# Altium schematic symbol library ETS_Library.SchLib: 127 symbols (part 3 of 3)
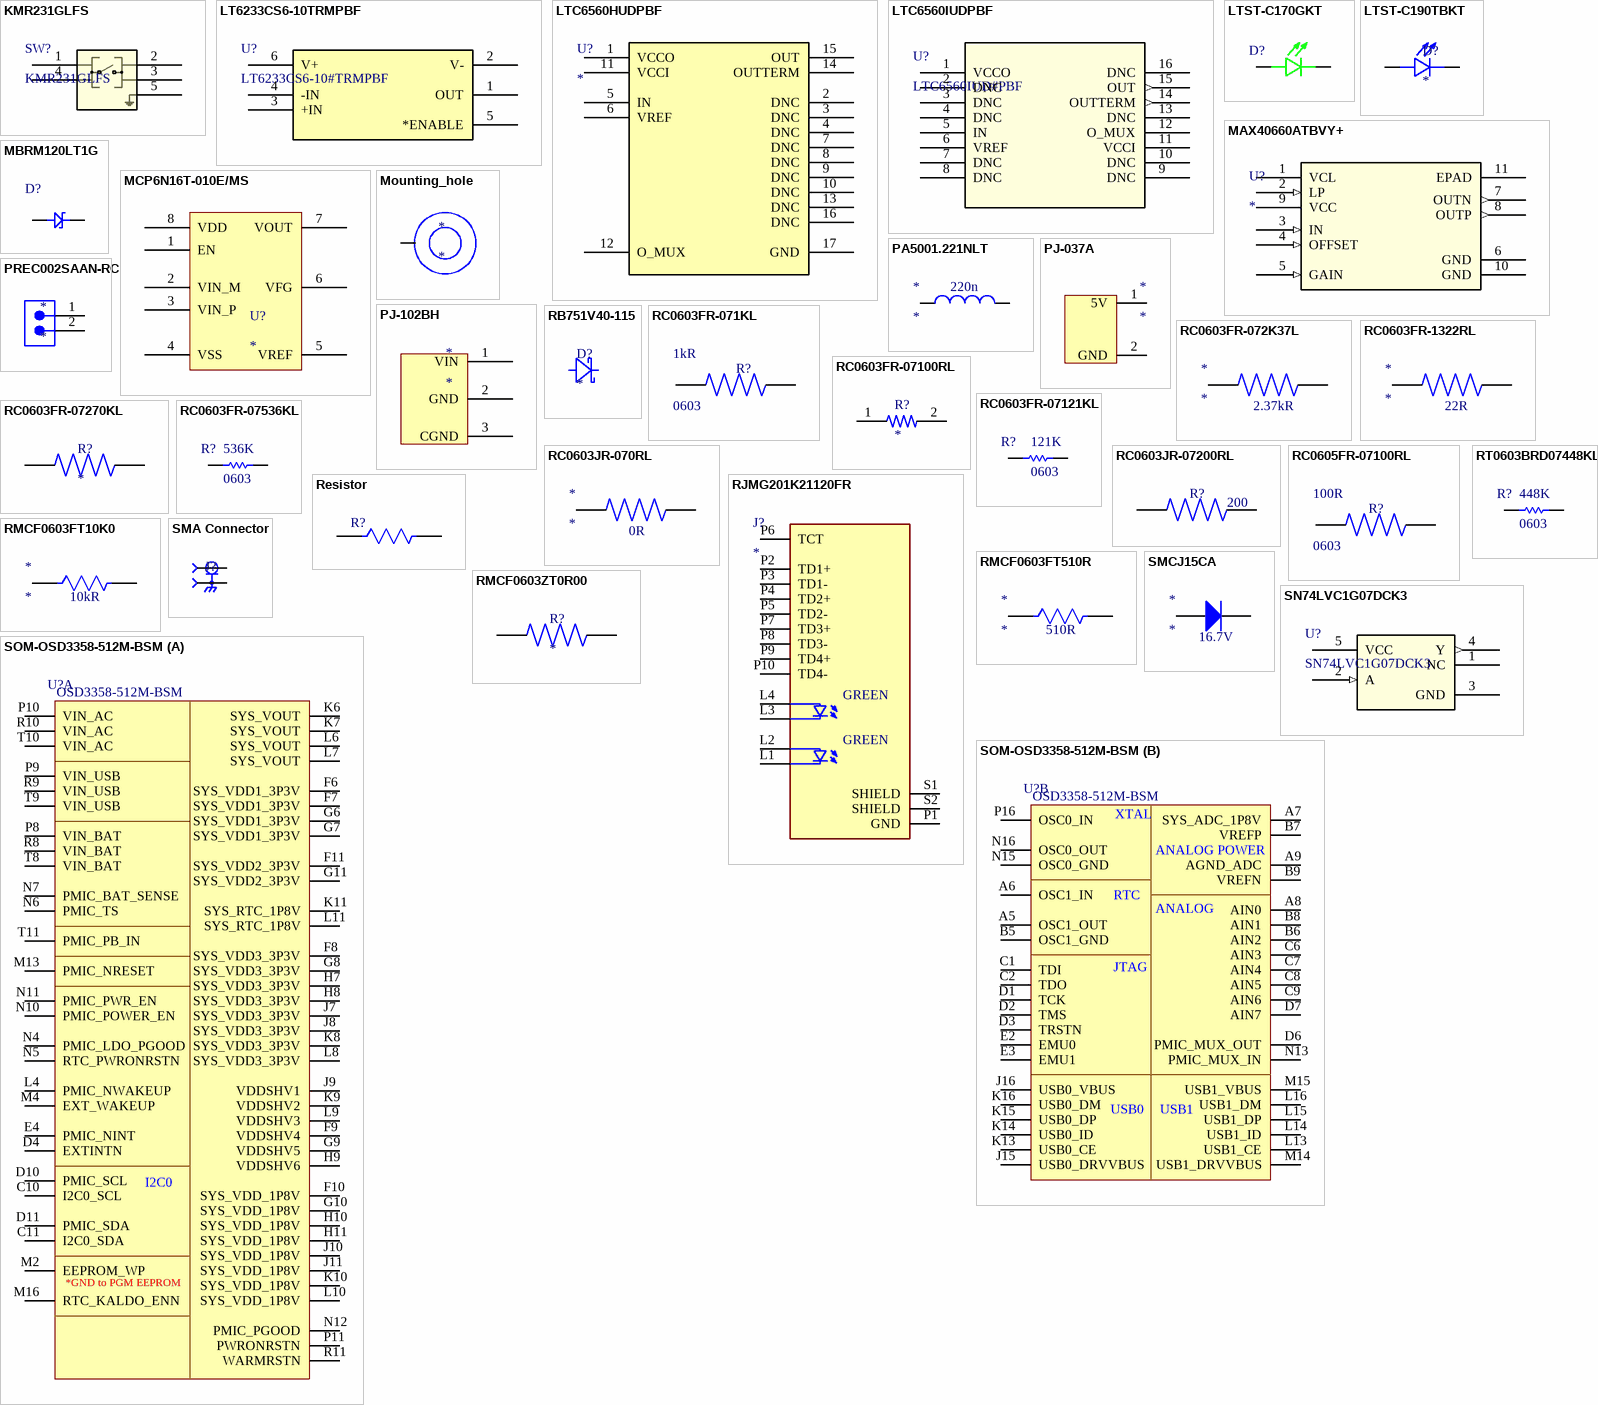
[diagram p5: symbols KMR231GLFS to SOM-OSD3358-512M-BSM]

## RMCF0603FT510R
designator *  value 510R
RES 510 OHM 1% 1/10W 0603; Manufacturer: Stackpole Electronics; Manufacturer Part Number: RMCF0603FT510R; Power: 100mW; Rated Temperature: 70°C; Temperature Coefficient: 100ppm/°C; Working Voltage: 75V; Package Height: 0.45mm; Package Length: 1.55mm; Package Width: 0.8mm; Reference Standard: AEC-Q200; Supplier: Arrow Electronics; Supplier Part Number: RMCF0603FT510R; RoHS: Yes; Category: Chip SMD Resistors; Stock: 10000; Pricing: 5000=0.003, 10000=0.0027, 25000=0.0023, 35000=0.0022, 50000=0.0021, 125000=0.0021 (USD); Mounting Technology: Surface Mount; Pins: 2; Package Shape: Rectangular; Case/Package: 0603; Terminal Finish: Nickel; Min Operating Temperature: -55°C; Max Operating Temperature: 155°C; Tolerance: 1%; JESD-609 Code: e3; Resistor Type: FIXED RESISTOR; Construction: Rectangular; Package Style: SMTMeter; Packaging: Tape and Reel; Technology: METAL GLAZE/THICK FILM; Termination: Wraparound; Reach SVHC Compliant: Yes; RoHS Compliant: Yes; ComponentLink1URL: https://datasheet.ciiva.com:443/pdfs/VipMasterIC/IC/SEIE/SEIE-S-A0009541969/SEIE-S-A0009541969-1.pdf?src-supplier=IHS+Markit; ComponentLink1Description: https://datasheet.ciiva.com:443/pdfs/VipMasterIC/IC/SEIE/SEIE-S-A0009541969/SEIE-S-A0009541969-1.pdf?src-supplier=IHS+Markit; ComponentLink2URL: http://components.arrow.com/part/dataview/40960407S7629227N1174?src-supplier=Arrow+Electronics; ComponentLink2Description: http://components.arrow.com/part/dataview/40960407S7629227N1174?src-supplier=Arrow+Electronics; ComponentLink3URL: https://www.seielect.com/catalog/SEI-Packaging.pdf?src-supplier=Digikey; ComponentLink3Description: https://www.seielect.com/catalog/SEI-Packaging.pdf?src-supplier=Digikey; ComponentLink4URL: https://www.seielect.com/Catalog/SEI-RMCF_RMCP.pdf?src-supplier=Digikey; ComponentLink4Description: https://www.seielect.com/Catalog/SEI-RMCF_RMCP.pdf?src-supplier=Digikey; ComponentLink5URL: https://www.seielect.com/catalog/SEI-RMCF_RMCP.pdf?src-supplier=Avnet; ComponentLink5Description: https://www.seielect.com/catalog/SEI-RMCF_RMCP.pdf?src-supplier=Avnet
footprint STA_RMCF0603_STP
pins: 1, 2

## RMCF0603ZT0R00
designator R?
0 Ohms Jumper 0.1W, 1/10W Chip Resistor 0603 (1608 Metric) Automotive AEC-Q200 Thick Film; MF: Stackpole Electronics; MP: RMCF0603ZT0R00; SnapEDA_Link: https://www.snapeda.com/parts/RMCF0603ZT0R00/Stackpole+Electronics+Inc/view-part/?ref=snap; Package: 0603 Stackpole Electronics; Value: *; Check_prices: https://www.snapeda.com/parts/RMCF0603ZT0R00/Stackpole+Electronics+Inc/view-part/?ref=eda
footprint RESC1508X55N
pins: 1, 2

## RT0603BRD07448KL
designator R?  value 448K  Case/Package: 0603  (hidden comment: RT0603BRD07448KL)
RES 448K OHM 0.1% 1/10W 0603; ComponentLink1URL: https://datasheet.ciiva.com:443/pdfs/VipMasterIC/IC/YAGO/YAGO-S-A0008145938/YAGO-S-A0008145938-1.pdf?src-supplier=IHS+Markit; ComponentLink1Description: https://datasheet.ciiva.com:443/pdfs/VipMasterIC/IC/YAGO/YAGO-S-A0008145938/YAGO-S-A0008145938-1.pdf?src-supplier=IHS+Markit; Supplier 1: DigiKey; Supplier Part Number 1: 13-RT0603BRD07448KLCT-ND
footprint R0603 (Chip Resistor, 2-Leads, Body 1.60x0.80mm, IPC Low Density)
pins: 1, 2

## SMA Connector
designator J?, comment EMPCB.SMAFSTJ.B.HT  (value not drawn)
SMA Connector Jack, Female Socket 50Ohm Board Edge, End Launch Solder; MF: Taoglas Limited; Value: *; SnapEDA_Link: https://www.snapeda.com/parts/EMPCB.SMAFSTJ.B.HT/Taoglas+Limited/view-part/?ref=snap; MP: EMPCB.SMAFSTJ.B.HT; Purchase-URL: https://pricing.snapeda.com/search/part/EMPCB.SMAFSTJ.B.HT/?ref=eda; Check_prices: https://www.snapeda.com/parts/EMPCB.SMAFSTJ.B.HT/Taoglas+Limited/view-part/?ref=eda; Availability: In Stock; Price: None; Package: None
footprint SMA Connector (TAOGLAS_EMPCB.SMAFSTJ.B.HT)
pins: 1, SH1 2, SH2 2, SH3 2, SH4 2

## SMCJ15CA
designator *  Min Breakdown Voltage: 16.7V
TVS DIODE 15VWM 24.4VC DO214AB; Manufacturer: Littelfuse; Manufacturer Part Number: SMCJ15CA; Reverse Standoff Voltage: 15V; Peak Pulse Power: 1.5kW; Polarity: Bidirectional; Peak Pulse Current: 61.5A; Max Breakdown Voltage: 18.5V; Test Current: 1mA; Number of Bidirectional Channels: 1; Clamping Voltage: 24.4V; Power Line Protection: No; Diode Type: ZENER; Max Power Dissipation: 6.5W; Leakage Current: 1uA; Supplier: Future Electronics; Supplier Part Number: 1631795; RoHS: Yes; Category: TVS Diodes; Stock: 15000; Pricing: 3000=0.184, 6000=0.18, 9000=0.178, 12000=0.177, 15000=0.172 (USD); Mounting Technology: Surface Mount; Case/Package: DO-214AB; Pins: 2; Min Operating Temperature: -65°C; Max Operating Temperature: 150°C; Direction: Bidirectional; Packaging: Tape and Reel; Breakdown Voltage: 16.7V; Package Quantity: 3000; Max Surge Current: 61.5A; Voltage Rating (DC): 15V; Series: SMCJ; Operating Supply Voltage: 15V; Power Dissipation: 1.5kW; Clamping Voltage-Max: 24.4V; Reverse Breakdown Voltage: 16.7V; Number of Channels: 1; Termination: SMD/SMT; Number of Elements: 1; Length: 8.13mm; Width: 6.22mm; Height: 2.62mm; RoHS Compliant: Yes; Reach SVHC Compliant: No; Lead Free: Lead Free; ComponentLink1URL: https://datasheet.ciiva.com/332/littelfuse-tvs-diode-smcj-datasheet-pdf-332436.pdf?src-supplier=Digikey; ComponentLink1Description: https://datasheet.ciiva.com/332/littelfuse-tvs-diode-smcj-datasheet-pdf-332436.pdf?src-supplier=Digikey; ComponentLink2URL: https://datasheet.ciiva.com/332/littelfuse-tvs-diode-smcj-datasheet-pdf-332437.pdf?src-supplier=Digikey; ComponentLink2Description: https://datasheet.ciiva.com/332/littelfuse-tvs-diode-smcj-datasheet-pdf-332437.pdf?src-supplier=Digikey; ComponentLink3URL: https://datasheet.ciiva.com/332/littelfuse-tvs-diode-smcj-datasheet-pdf-332438.pdf?src-supplier=Digikey; ComponentLink3Description: https://datasheet.ciiva.com/332/littelfuse-tvs-diode-smcj-datasheet-pdf-332438.pdf?src-supplier=Digikey; ComponentLink4URL: https://datasheet.ciiva.com/4509/littelfuse-tvs-diode-smcj-62645-4509853.pdf?src-supplier=Mouser; ComponentLink4Description: https://datasheet.ciiva.com/4509/littelfuse-tvs-diode-smcj-62645-4509853.pdf?src-supplier=Mouser; ComponentLink5URL: https://datasheet.ciiva.com/46384/607636-46384504.pdf?src-supplier=Element14; ComponentLink5Description: https://datasheet.ciiva.com/46384/607636-46384504.pdf?src-supplier=Element14
footprint DIOM8059X265N
pins: 1 A, 2 K

## SN74LVC1G07DCK3
designator U?
IC BUFFER NON-INVERT 5.5V SC70-5; Mfr_Name: Texas Instruments; Copyright: Copyright (C) 2024 Ultra Librarian. All rights reserved.; Manufacturer_Part_Number: SN74LVC1G07DCK3; RefDes: RefDes; Type: DEV
footprint DCK5
pins: 1 NC, 2 A (in), 3 GND (power), 4 Y (out), 5 VCC (power)

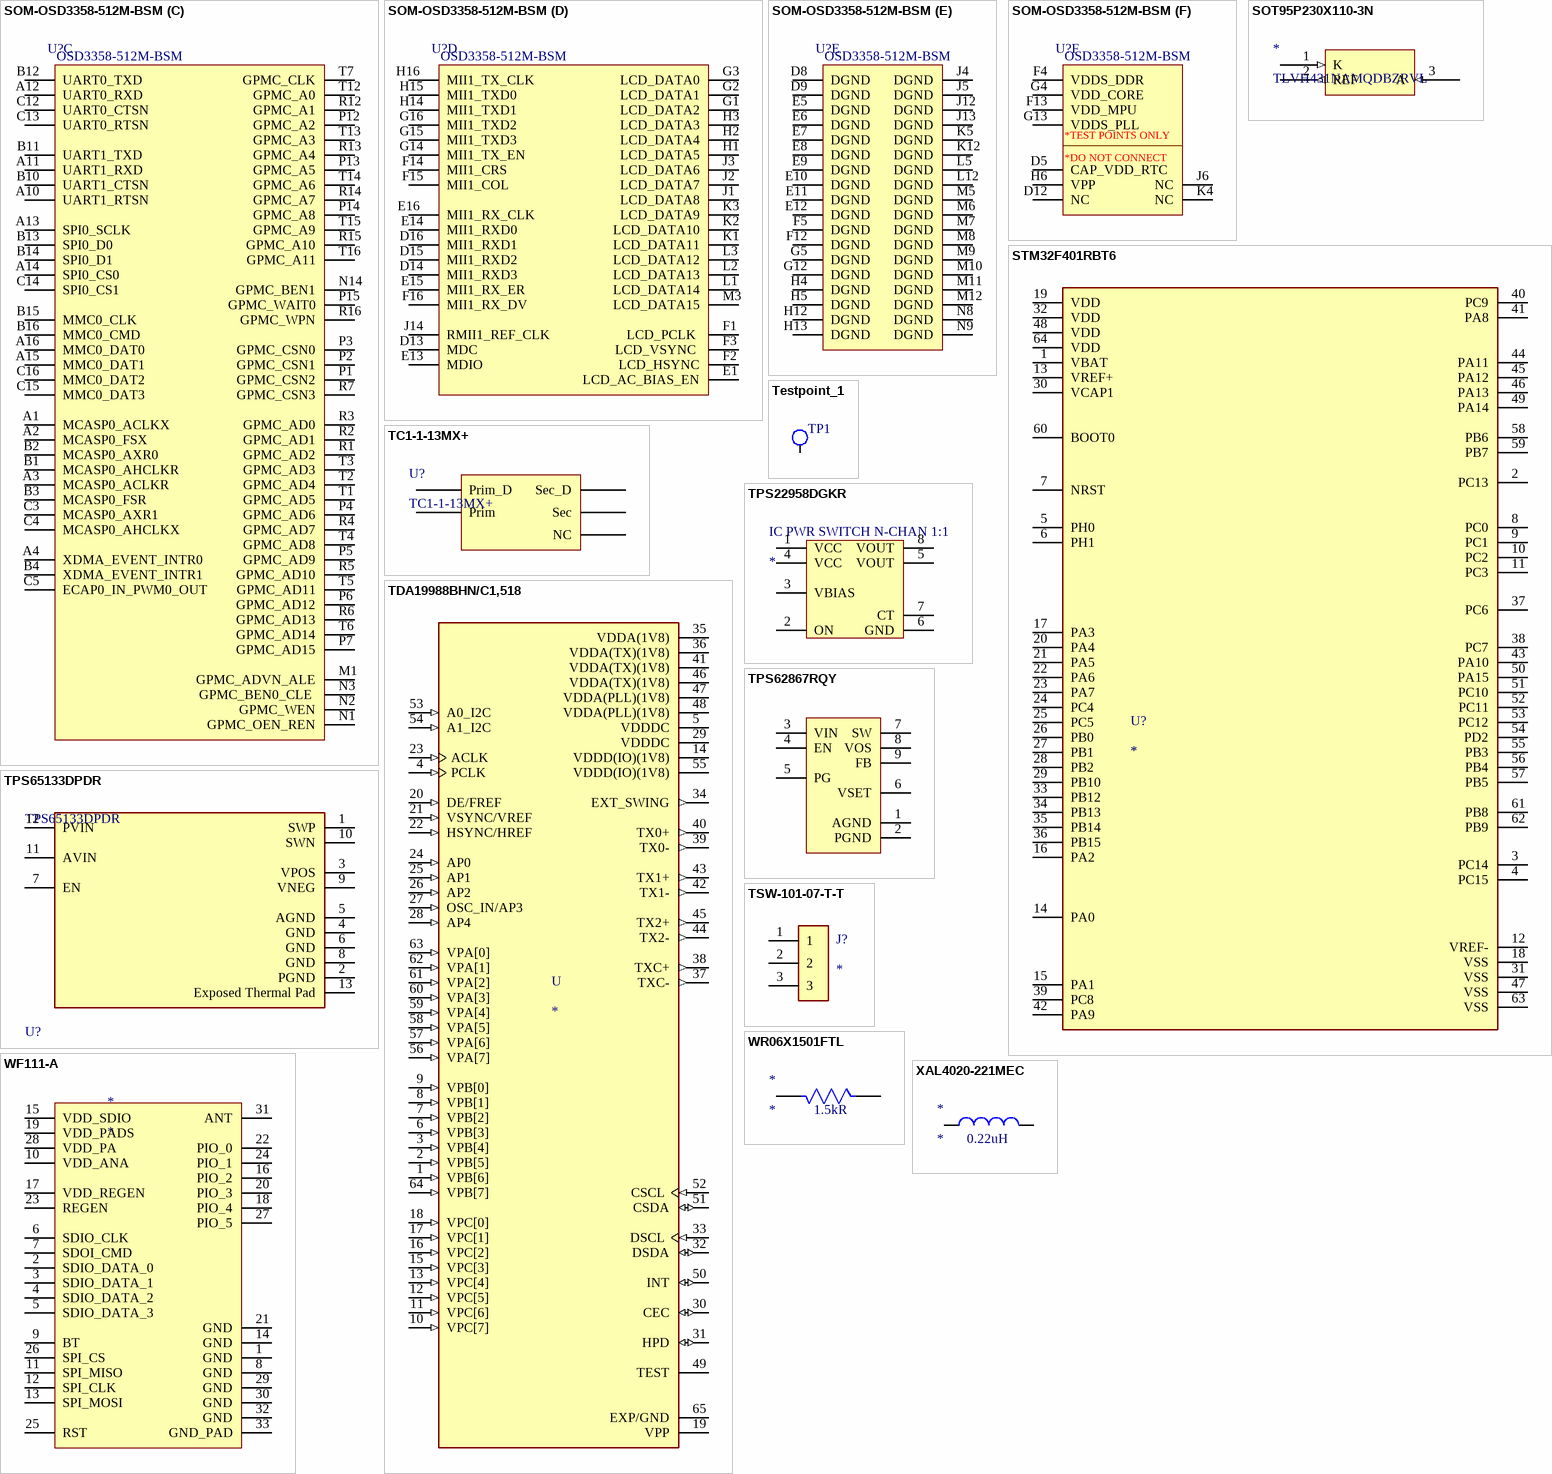
[diagram p3: symbols SOM-OSD3358-512M-BSM to XAL4020-221MEC]

## SOM-OSD3358-512M-BSM
designator U?, comment OSD3358-512M-BSM
IC MODULE CORTEX-A8 1GHZ 512MB; Manufacturer: Octavo Systems; Package: FBGA -256; Temperature range: 0C to +85C; PartNumber: OSD3358-512M-BSM
footprint BGA256C127P16X16_2100X2100X308 (BGA, 256-Leads, Body 21.00x21.00mmx3.08mm, Pitch 1.27mm)
part A pins: C10 I2C0_SCL, C11 I2C0_SDA, D4 EXTINTN, D10 PMIC_SCL, D11 PMIC_SDA, E4 PMIC_NINT, F6 SYS_VDD1_3P3V, F7 SYS_VDD1_3P3V, F8 SYS_VDD3_3P3V, F9 VDDSHV4, F10 SYS_VDD_1P8V, F11 SYS_VDD2_3P3V, G6 SYS_VDD1_3P3V, G7 SYS_VDD1_3P3V, G8 SYS_VDD3_3P3V, G9 VDDSHV5, G10 SYS_VDD_1P8V, G11 SYS_VDD2_3P3V, H7 SYS_VDD3_3P3V, H8 SYS_VDD3_3P3V, H9 VDDSHV6, H10 SYS_VDD_1P8V, H11 SYS_VDD_1P8V, J7 SYS_VDD3_3P3V, J8 SYS_VDD3_3P3V, J9 VDDSHV1, J10 SYS_VDD_1P8V, J11 SYS_VDD_1P8V, K6 SYS_VOUT, K7 SYS_VOUT, K8 SYS_VDD3_3P3V, K9 VDDSHV2, K10 SYS_VDD_1P8V, K11 SYS_RTC_1P8V, L4 PMIC_NWAKEUP, L6 SYS_VOUT, L7 SYS_VOUT, L8 SYS_VDD3_3P3V, L9 VDDSHV3, L10 SYS_VDD_1P8V, L11 SYS_RTC_1P8V, M2 EEPROM_WP, M4 EXT_WAKEUP, M13 PMIC_NRESET, M16 RTC_KALDO_ENN, N4 PMIC_LDO_PGOOD, N5 RTC_PWRONRSTN, N6 PMIC_TS, N7 PMIC_BAT_SENSE, N10 PMIC_POWER_EN, N11 PMIC_PWR_EN, N12 PMIC_PGOOD, P8 VIN_BAT, P9 VIN_USB, P10 VIN_AC, P11 PWRONRSTN, R8 VIN_BAT, R9 VIN_USB, R10 VIN_AC, R11 WARMRSTN, T8 VIN_BAT, T9 VIN_USB, T10 VIN_AC, T11 PMIC_PB_IN
part B pins: A5 OSC1_OUT, A6 OSC1_IN, A7 SYS_ADC_1P8V, A8 AIN0, A9 AGND_ADC, B5 OSC1_GND, B6 AIN2, B7 VREFP, B8 AIN1, B9 VREFN, C1 TDI, C2 TDO, C6 AIN3, C7 AIN4, C8 AIN5, C9 AIN6, D1 TCK, D2 TMS, D3 TRSTN, D6 PMIC_MUX_OUT, D7 AIN7, E2 EMU0, E3 EMU1, J15 USB0_DRVVBUS, J16 USB0_VBUS, K13 USB0_CE, K14 USB0_ID, K15 USB0_DP, K16 USB0_DM, L13 USB1_CE, L14 USB1_ID, L15 USB1_DP, L16 USB1_DM, M14 USB1_DRVVBUS, M15 USB1_VBUS, N13 PMIC_MUX_IN, N15 OSC0_GND, N16 OSC0_OUT, P16 OSC0_IN
part C pins: A1 MCASP0_ACLKX, A2 MCASP0_FSX, A3 MCASP0_ACLKR, A4 XDMA_EVENT_INTR0, A10 UART1_RTSN, A11 UART1_RXD, A12 UART0_RXD, A13 SPI0_SCLK, A14 SPI0_CS0, A15 MMC0_DAT1, A16 MMC0_DAT0, B1 MCASP0_AHCLKR, B2 MCASP0_AXR0, B3 MCASP0_FSR, B4 XDMA_EVENT_INTR1, B10 UART1_CTSN, B11 UART1_TXD, B12 UART0_TXD, B13 SPI0_D0, B14 SPI0_D1, B15 MMC0_CLK, B16 MMC0_CMD, C3 MCASP0_AXR1, C4 MCASP0_AHCLKX, C5 ECAP0_IN_PWM0_OUT, C12 UART0_CTSN, C13 UART0_RTSN, C14 SPI0_CS1, C15 MMC0_DAT3, C16 MMC0_DAT2, M1 GPMC_ADVN_ALE, N1 GPMC_OEN_REN, N2 GPMC_WEN, N3 GPMC_BEN0_CLE , N14 GPMC_BEN1, P1 GPMC_CSN2, P2 GPMC_CSN1, P3 GPMC_CSN0, P4 GPMC_AD6, P5 GPMC_AD9, P6 GPMC_AD12, P7 GPMC_AD15, P12 GPMC_A2, P13 GPMC_A5, P14 GPMC_A8, P15 GPMC_WAIT0, R1 GPMC_AD2, R2 GPMC_AD1, R3 GPMC_AD0, R4 GPMC_AD7, R5 GPMC_AD10, R6 GPMC_AD13, R7 GPMC_CSN3, R12 GPMC_A1, R13 GPMC_A4, R14 GPMC_A7, R15 GPMC_A10, R16 GPMC_WPN, T1 GPMC_AD5, T2 GPMC_AD4, T3 GPMC_AD3, T4 GPMC_AD8, T5 GPMC_AD11, T6 GPMC_AD14, T7 GPMC_CLK, T12 GPMC_A0, T13 GPMC_A3, T14 GPMC_A6, T15 GPMC_A9, T16 GPMC_A11
part D pins: D13 MDC, D14 MII1_RXD3, D15 MII1_RXD2, D16 MII1_RXD1, E1 LCD_AC_BIAS_EN, E13 MDIO, E14 MII1_RXD0, E15 MII1_RX_ER, E16  MII1_RX_CLK, F1 LCD_PCLK , F2 LCD_HSYNC, F3 LCD_VSYNC , F14 MII1_CRS, F15 MII1_COL, F16 MII1_RX_DV, G1 LCD_DATA2, G2 LCD_DATA1, G3 LCD_DATA0, G14 MII1_TX_EN, G15 MII1_TXD3, G16 MII1_TXD2, H1 LCD_DATA5, H2 LCD_DATA4, H3 LCD_DATA3, H14 MII1_TXD1, H15 MII1_TXD0, H16  MII1_TX_CLK, J1 LCD_DATA8, J2 LCD_DATA7, J3 LCD_DATA6, J14 RMII1_REF_CLK, K1 LCD_DATA11, K2 LCD_DATA10, K3 LCD_DATA9, L1 LCD_DATA14, L2 LCD_DATA13, L3 LCD_DATA12, M3 LCD_DATA15
part E pins: D8 DGND, D9 DGND, E5 DGND, E6 DGND, E7 DGND, E8 DGND, E9 DGND, E10 DGND, E11 DGND, E12 DGND, F5 DGND, F12 DGND, G5 DGND, G12 DGND, H4 DGND, H5 DGND, H12 DGND, H13 DGND, J4 DGND, J5 DGND, J12 DGND, J13 DGND, K5 DGND, K12 DGND, L5 DGND, L12 DGND, M5 DGND, M6 DGND, M7 DGND, M8 DGND, M9 DGND, M10 DGND, M11 DGND, M12 DGND, N8 DGND, N9 DGND
part F pins: D5 CAP_VDD_RTC, D12 NC, F4 VDDS_DDR, F13 VDD_MPU, G4 VDD_CORE, G13 VDDS_PLL, H6 VPP, J6 NC, K4 NC
part A text: I2C0; *GND to PGM EEPROM
part B text: XTAL; ANALOG POWER; RTC /; ANALOG; JTAG; USB0; USB1
part F text: *TEST POINTS ONLY; *DO NOT CONNECT

## SOT95P230X110-3N
designator *, comment TLVH431NAMQDBZRVL
IC VREF SHUNT ADJ 1.5% TO236AB
footprint SOT95P230X110-3N
pins: 1 K (in), 2 REF (out), 3 A (in)

## STM32F401RBT6
designator U?
ARMÂ® CortexÂ®-M4 STM32F4 Microcontroller IC 32-Bit Single-Core 84MHz 128KB (128K x 8) FLASH 64-LQFP (10x10); MF: STMicroelectronics; MP: STM32F401RBT6; SnapEDA_Link: https://www.snapeda.com/parts/STM32F401RBT6/STMicroelectronics/view-part/?ref=snap; Package: LQFP-64 STMicroelectronics; Value: *; Check_prices: https://www.snapeda.com/parts/STM32F401RBT6/STMicroelectronics/view-part/?ref=eda
footprint QFP50P1200X1200X160-64N
pins: 1 VBAT, 2 PC13, 3 PC14, 4 PC15, 5 PH0, 6 PH1, 7 NRST, 8 PC0, 9 PC1, 10 PC2, 11 PC3, 12 VREF-, 13 VREF+, 14 PA0, 15 PA1, 16 PA2, 17 PA3, 18 VSS, 19 VDD, 20 PA4, 21 PA5, 22 PA6, 23 PA7, 24 PC4, 25 PC5, 26 PB0, 27 PB1, 28 PB2, 29 PB10, 30 VCAP1, 31 VSS, 32 VDD, 33 PB12, 34 PB13, 35 PB14, 36 PB15, 37 PC6, 38 PC7, 39 PC8, 40 PC9, 41 PA8, 42 PA9, 43 PA10, 44 PA11, 45 PA12, 46 PA13, 47 VSS, 48 VDD, 49 PA14, 50 PA15, 51 PC10, 52 PC11, 53 PC12, 54 PD2, 55 PB3, 56 PB4, 57 PB5, 58 PB6, 59 PB7, 60 BOOT0, 61 PB8, 62 PB9, 63 VSS, 64 VDD

## TC1-1-13MX+
designator U?
1:1 CORE & WIRE TRANSFORMER, 4.5
footprint TC1-1-13MX+
pins: 1 Sec_D, 2 NC, 3 Sec, 4 Prim, 6 Prim_D

## TDA19988BHN/C1,518
designator U
Video IC 64-HVQFN _9x9_ Package; MP: TDA19988BHN/C1,518; MF: NXP USA; Package: HVQFN-64 NXP Semiconductors; Value: *; SnapEDA_Link: https://www.snapeda.com/parts/TDA19988BHN/C1,518/NXP%20USA%20Inc./view-part/649183/?ref=snap; Availability: Unavailable; Price: None
footprint QFN50P900X900X100-65N
pins: 1 VPB[6] (in), 2 VPB[5] (in), 3 VPB[4] (in), 4 PCLK (in), 5 VDDDC (power), 6 VPB[3] (in), 7 VPB[2] (in), 8 VPB[1] (in), 9 VPB[0] (in), 10 VPC[7] (in), 11 VPC[6] (in), 12 VPC[5] (in), 13 VPC[4] (in), 14 VDDD(IO)(1V8) (power), 15 VPC[3] (in), 16 VPC[2] (in), 17 VPC[1] (in), 18 VPC[0] (in), 19 VPP (power), 20 DE/FREF (in), 21 VSYNC/VREF (in), 22 HSYNC/HREF (in), 23 ACLK (in), 24 AP0 (in), 25 AP1 (in), 26 AP2 (in), 27 OSC_IN/AP3 (in), 28 AP4 (in), 29 VDDDC (power), 30 CEC (io), 31 HPD (io), 32 DSDA (io), 33 DSCL (in), 34 EXT_SWING (out), 35 VDDA(1V8) (power), 36 VDDA(TX)(1V8) (power), 37 TXC- (out), 38 TXC+ (out), 39 TX0- (out), 40 TX0+ (out), 41 VDDA(TX)(1V8) (power), 42 TX1- (out), 43 TX1+ (out), 44 TX2- (out), 45 TX2+ (out), 46 VDDA(TX)(1V8) (power), 47 VDDA(PLL)(1V8) (power), 48 VDDA(PLL)(1V8) (power), 49 TEST, 50 INT (io), 51 CSDA (io), 52 CSCL (in), 53 A0_I2C (in), 54 A1_I2C (in), 55 VDDD(IO)(1V8) (power), 56 VPA[7] (in), 57 VPA[6] (in), 58 VPA[5] (in), 59 VPA[4] (in), 60 VPA[3] (in), 61 VPA[2] (in), 62 VPA[1] (in), 63 VPA[0] (in), 64 VPB[7] (in), 65 EXP/GND (power)

## Testpoint_1
designator TP1, comment TP_1  (value not drawn)  (no BOM)
footprint Testpoint_1
pins: 1

## TPS22958DGKR
designator IC PWR SWITCH N-CHAN 1:1
Power Switch/Driver 1:1 N-Channel 4A 8-VSSOP; Manufacturer: Texas Instruments; Manufacturer Part Number: TPS22958DGKR; Number of Outputs: 1; Interface: On/Off; Output Configuration: High Side; Supplier: Mouser; Supplier Part Number: 595-TPS22958DGKR; RoHS: Yes; Category: Power Management ICs; Stock: 26717; Pricing: 1=1, 10=0.848, 50=0.848, 100=0.651, 1000=0.454, 10000=0.379 (USD); Case/Package: VSSOP; Pins: 8NUMBER; Min Operating Temperature: -40°C; Max Operating Temperature: 105°C; Packaging: Tape and Reel; Max Output current: 4A; Number of Channels: 1; Series: -; Length: 3mm; Width: 3mm; Height: 1.07mm; Thickness: 970um; Lead Free: Lead Free; RoHS Compliant: Yes; ComponentLink1URL: http://www.ti.com/lit/ds/symlink/tps22958.pdf?src-supplier=Digikey; ComponentLink1Description: http://www.ti.com/lit/ds/symlink/tps22958.pdf?src-supplier=Digikey; ComponentLink2URL: http://www.ti.com/general/docs/suppproductinfo.tsp?distId=10&amp;gotoUrl=http%3A%2F%2Fwww.ti.com%2Flit%2Fgpn%2Ftps22958&src-supplier=Digikey; ComponentLink2Description: http://www.ti.com/general/docs/suppproductinfo.tsp?distId=10&amp;gotoUrl=http%3A%2F%2Fwww.ti.com%2Flit%2Fgpn%2Ftps22958&src-supplier=Digikey; ComponentLink3URL: http://www.ti.com/general/docs/lit/getliterature.tsp?genericPartNumber=TPS22958&&fileType=pdf&src-supplier=Avnet; ComponentLink3Description: http://www.ti.com/general/docs/lit/getliterature.tsp?genericPartNumber=TPS22958&&fileType=pdf&src-supplier=Avnet; ComponentLink4URL: http://www.ti.com/lit/gpn/tps22958?src-supplier=Mouser; ComponentLink4Description: http://www.ti.com/lit/gpn/tps22958?src-supplier=Mouser
footprint DGN0008D_L
pins: 1 VCC, 2 ON, 3 VBIAS, 4 VCC, 5 VOUT, 6 GND, 7 CT, 8 VOUT

## TPS62867RQY
designator ?  (value not drawn)
IC REG BUCK ADJ 6A 9VQFN; Supplier 1: Mouser; Supplier Part Number 1: 595-TPS62867RQYR
footprint RQY0009A-MFG
pins: 1 AGND, 2 PGND, 3 VIN, 4 EN, 5 PG, 6 VSET, 7 SW, 8 VOS, 9 FB

## TPS65133DPDR
designator U?
IC REG AMOLED DISPL 2OUT 12WSON; Number of Channels: 2; Max Supply Voltage: 5V; Min Supply Voltage: 2.9V; Output Voltage: -5V; Mount: Surface Mount; Case/Package: QFN; Packaging: Tape and Reel; Lead Free: Lead Free; Radiation Hardening: No; Min Operating Temperature: -40°C; Number of Outputs: 2; Max Operating Temperature: 85°C; Number of Pins: 12; RoHS Compliant: Yes; Package Quantity: 3000
footprint FP-DPD0012A-MFG
pins: 1 SWP, 2 PGND, 3 VPOS, 4 GND, 5 AGND, 6 GND, 7 EN, 8 GND, 9 VNEG, 10 SWN, 11 AVIN, 12 PVIN, 13 Exposed Thermal Pad

## TSW-101-07-T-T
designator J?
MF: Samtec; MP: TSW-101-07-T-T; Package: None; Value: *; Availability: Unavailable; Price: None
footprint SAMTEC_TSW-101-07-T-T
pins: 1, 2, 3

## WF111-A
designator *
RF TXRX MODULE WIFI CHIP SMD
footprint WF111
pins: 1 GND, 2 SDIO_DATA_0, 3 SDIO_DATA_1, 4 SDIO_DATA_2, 5 SDIO_DATA_3, 6 SDIO_CLK, 7 SDOI_CMD, 8 GND, 9 BT, 10 VDD_ANA, 11 SPI_MISO, 12 SPI_CLK, 13 SPI_MOSI, 14 GND, 15 VDD_SDIO, 16 PIO_2, 17 VDD_REGEN, 18 PIO_4, 19 VDD_PADS, 20 PIO_3, 21 GND, 22 PIO_0, 23 REGEN, 24 PIO_1, 25 RST, 26 SPI_CS, 27 PIO_5, 28 VDD_PA, 29 GND, 30 GND, 31 ANT, 32 GND, 33 GND_PAD

## WR06X1501FTL
designator *  value 1.5kR
RES 1.5K OHM 1% 1/10W 0603; Manufacturer: Walsin Technologies; Manufacturer Part Number: WR06X1501FTL; Power: 100mW; Rated Temperature: 70°C; Temperature Coefficient: 100ppm/°C; Working Voltage: 50V; Package Height: 0.45mm; Package Length: 1.6mm; Package Width: 0.8mm; Supplier: Future Electronics; Supplier Part Number: 2015724; RoHS: Yes; Category: Chip SMD Resistors; Stock: 900000; Pricing: 5000=0.0017, 75000=0.0016, 200000=0.0016, 625000=0.0015, 1500000=0.0014 (USD); Mounting Technology: Surface Mount; Pins: 2; Package Shape: Rectangular; Case/Package: 0603; Terminal Finish: Nickel; Min Operating Temperature: -55°C; Max Operating Temperature: 155°C; Tolerance: 1%; JESD-609 Code: e3; Resistor Type: FIXED RESISTOR; Packaging: Tape and Reel; Termination: Wraparound; Construction: Chip; Package Style: SMTMeter; Technology: METAL GLAZE/THICK FILM; Reach SVHC Compliant: Yes; RoHS Compliant: Yes; ComponentLink1URL: https://datasheet.ciiva.com:443/pdfs/VipMasterIC/IC/WATC/WATC-S-A0005256878/WATC-S-A0005256878-1.pdf?src-supplier=IHS+Markit; ComponentLink1Description: https://datasheet.ciiva.com:443/pdfs/VipMasterIC/IC/WATC/WATC-S-A0005256878/WATC-S-A0005256878-1.pdf?src-supplier=IHS+Markit; ComponentLink2URL: https://datasheet.ciiva.com/26832/getdatasheetpartid-137135-26832315.pdf?src-supplier=Verical; ComponentLink2Description: https://datasheet.ciiva.com/26832/getdatasheetpartid-137135-26832315.pdf?src-supplier=Verical
footprint RES_WR06_WRE
pins: 1, 2

## XAL4020-221MEC
designator *  Inductance-Nom (L): 0.22uH
IND 0.22uH 16.8A 6.4mOhm 1616; Manufacturer: Coilcraft; Manufacturer Part Number: XAL4020-221MEC; Core Material: Composite; Tolerance: 20%; Case/Size Code: 1515; DC Resistance (DCR): 6.4mR; Inductor Application: POWER INDUCTOR; Inductor Type: GENERAL PURPOSE INDUCTOR; Channels: 1; Self Resonant Frequency: 191MHz; Shape/Size Description: RECTANGULAR PACKAGE; Shielding: Shielded; Test Frequency: 100kHz; Package Height: 2.1mm; Package Length: 4mm; Reference Standard: AEC-Q200; Supplier: Mouser; Supplier Part Number: 994-XAL4020-221MEC; RoHS: Yes; Category: Fixed Inductors; Stock: 3892; Pricing: 1=2.36, 10=2.36, 50=2.36, 100=2.36, 1000=1.08, 10000=1.08 (USD); Pins: 2; Terminal Finish: Tin; Min Operating Temperature: -40°C; Max Operating Temperature: 130°C; JESD-609 Code: e2; Construction: Chip; Package Style: SMTMeter; Packaging: Tape and Reel; Max Current Rating: 16.8A; Surface Mount: Yes; Terminal Placement: Dual Ended; Termination: One Surface; Package Width: 4mm; Reach SVHC Compliant: Yes; RoHS Compliant: Yes; ComponentLink1URL: https://datasheet.ciiva.com:443/pdfs/VipMasterIC/IC/COLC/COLC-S-A0006757288/COLC-S-A0006757288-1.pdf?src-supplier=IHS+Markit; ComponentLink1Description: https://datasheet.ciiva.com:443/pdfs/VipMasterIC/IC/COLC/COLC-S-A0006757288/COLC-S-A0006757288-1.pdf?src-supplier=IHS+Markit; ComponentLink2URL: https://datasheet.ciiva.com/13285/xal4000-270751-13285782.pdf?src-supplier=Mouser; ComponentLink2Description: https://datasheet.ciiva.com/13285/xal4000-270751-13285782.pdf?src-supplier=Mouser
pins: 1, 2